# Altium footprint library SamacSys.PcbLib: 27 footprints (part 2 of 2)
Each footprint in its own frame and in the unit in brackets; x right, y up, seen from the top. Pads: shape width x height; smd on the part's side, far side on the other; paste and mask are expansions set on the pad; w line width, h text height; cw(c..) or ccw(c..) is an arc to the next point about the centre after c.
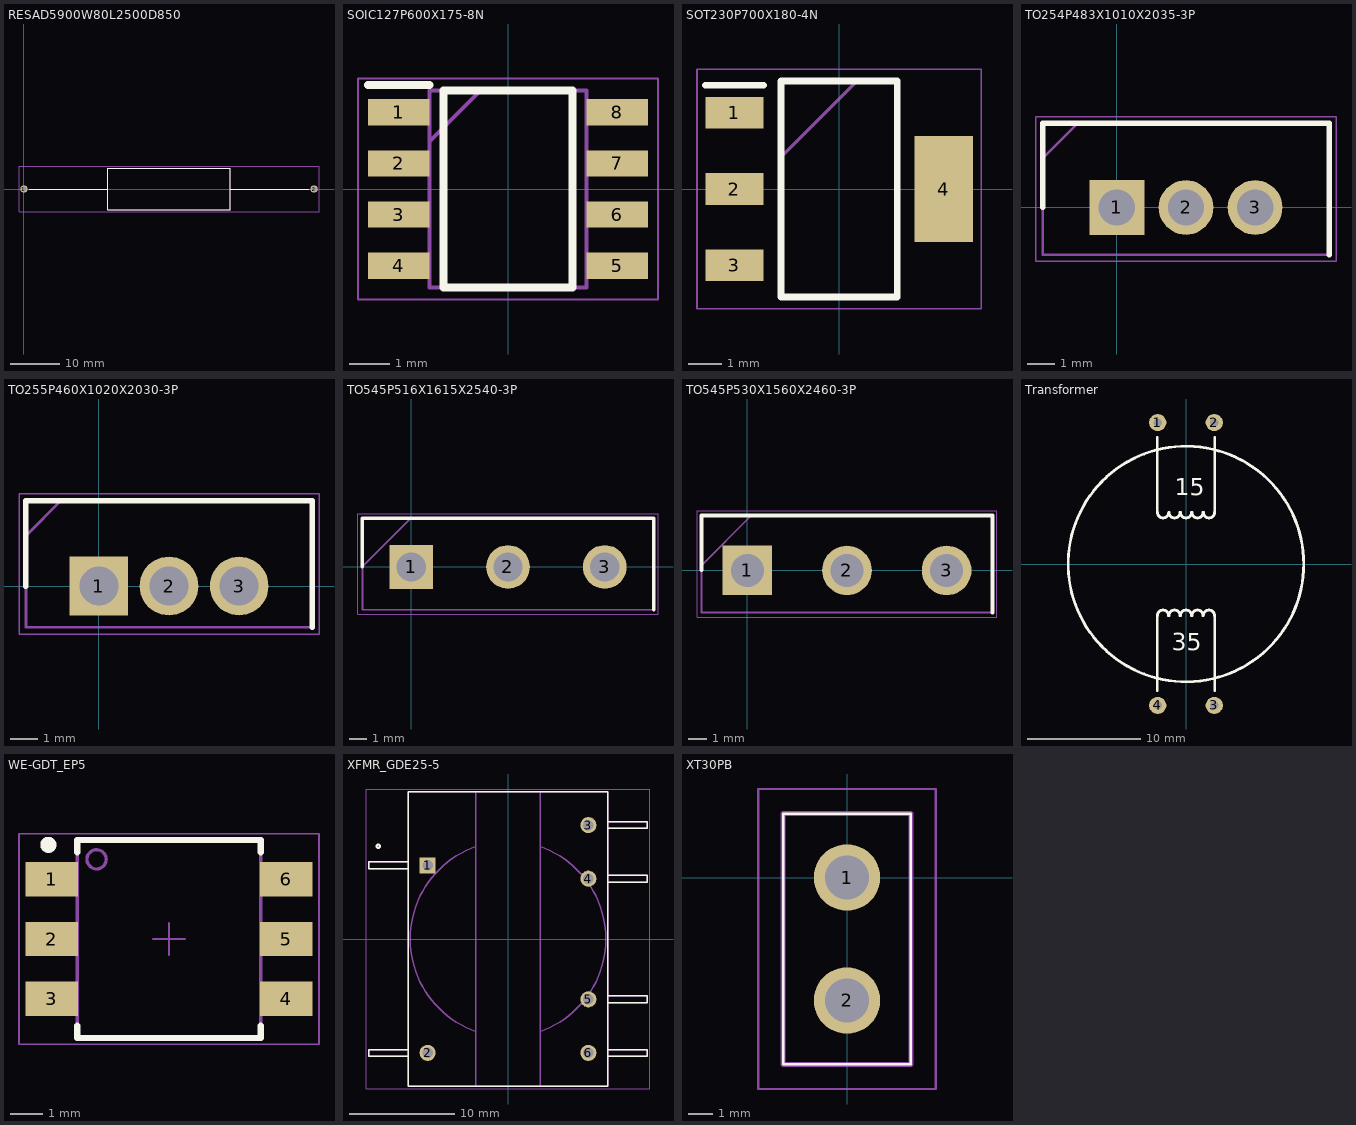
[diagram p1: the footprints below, top view; thin cyan lines are the x and y axes]

## RESAD5900W80L2500D850 [mm]
pads (2):
  round 1.5 hole 1: 1(0,0) 2(59,0)
Top Overlay:
  lines w0.2: 1.1,0 17,0 ; 42,0 57.9,0 ; 17,-4.25 17,4.25 42,4.25 42,-4.25 17,-4.25
Mechanical 13:
  lines w0.1: 0,0 17,0 ; 42,0 59,0 ; 17,-4.25 17,4.25 42,4.25 42,-4.25 17,-4.25
Mechanical 15:
  lines w0.05: -1,-4.6 -1,4.6 60,4.6 60,-4.6 -1,-4.6
3D body "EP5WS47RJ.stp": height 9.5, standoff -9.5, extent -0.4,-4.75 59.4,4.75

## SOIC127P600X175-8N [mm]
pads (8):
  rect 1.525x0.65 smd: 1(-2.712,1.905) 2(-2.712,0.635) 3(-2.712,-0.635) 4(-2.712,-1.905) 5(2.712,-1.905) 6(2.712,-0.635) 7(2.712,0.635) 8(2.712,1.905)
Top Overlay:
  lines w0.2: -3.475,2.58 -1.95,2.58 ; -1.6,-2.45 -1.6,2.45 1.6,2.45 1.6,-2.45 -1.6,-2.45
Mechanical 13:
  lines w0.1: -1.95,1.18 -0.68,2.45 ; -1.95,-2.45 -1.95,2.45 1.95,2.45 1.95,-2.45 -1.95,-2.45
Mechanical 15:
  lines w0.05: -3.725,-2.75 -3.725,2.75 3.725,2.75 3.725,-2.75 -3.725,-2.75
3D body "NE555DR.stp": height 1.75, standoff 0, extent -3,-2.45 3,2.45

## SOT230P700X180-4N [mm]
pads (4):
  rect 1.75x0.95 smd: 1(-3.15,2.3) 2(-3.15,0) 3(-3.15,-2.3)
  rect 1.75x3.2 smd: 4(3.15,0)
Top Overlay:
  lines w0.2: -4.025,3.125 -2.275,3.125 ; -1.75,-3.25 -1.75,3.25 1.75,3.25 1.75,-3.25 -1.75,-3.25
Mechanical 13:
  lines w0.1: -1.75,0.95 0.55,3.25 ; -1.75,-3.25 -1.75,3.25 1.75,3.25 1.75,-3.25 -1.75,-3.25
Mechanical 15:
  lines w0.05: -4.275,-3.6 -4.275,3.6 4.275,3.6 4.275,-3.6 -4.275,-3.6
3D body "LM7805MPX_NOPB.stp": height 1.68, standoff 0, extent -3.5,-3.25 3.5,3.25

## TO254P483X1010X2035-3P [mm]
pads (3):
  rect 2.01x2.01 hole 1.34: 1(0,0)
  round 2.01 hole 1.34: 2(2.54,0) 3(5.08,0)
Top Overlay:
  lines w0.2: -2.725,0 -2.725,3.095 7.805,3.095 7.805,-1.735
Mechanical 13:
  lines w0.1: -2.725,1.825 -1.455,3.095 ; -2.725,-1.735 -2.725,3.095 7.805,3.095 7.805,-1.735 -2.725,-1.735
Mechanical 15:
  lines w0.05: -2.975,-1.985 -2.975,3.345 8.055,3.345 8.055,-1.985 -2.975,-1.985
3D body "MBR40250TG.stp": height 18.56, standoff -17.79, extent -2.508,-1.735 7.588,3.095

## TO255P460X1020X2030-3P [mm]
pads (3):
  rect 2.13x2.13 hole 1.42: 1(0,0)
  round 2.13 hole 1.42: 2(2.55,0) 3(5.1,0)
Top Overlay:
  lines w0.2: -2.65,0 -2.65,3.1 7.75,3.1 7.75,-1.5
Mechanical 13:
  lines w0.1: -2.65,1.825 -1.375,3.1 ; -2.65,-1.5 -2.65,3.1 7.75,3.1 7.75,-1.5 -2.65,-1.5
Mechanical 15:
  lines w0.05: -2.9,-1.75 -2.9,3.35 8,3.35 8,-1.75 -2.9,-1.75
3D body "L7815CP.stp": height 19.4, standoff -18.3, extent -2.55,-1.5 7.65,3.1

## TO545P516X1615X2540-3P [mm]
pads (3):
  rect 2.46x2.46 hole 1.64: 1(0,0)
  round 2.46 hole 1.64: 2(5.45,0) 3(10.9,0)
Top Overlay:
  lines w0.2: -2.75,0 -2.75,2.745 13.65,2.745 13.65,-2.415
Mechanical 13:
  lines w0.1: -2.75,0.02 -0.025,2.745 ; -2.75,-2.415 -2.75,2.745 13.65,2.745 13.65,-2.415 -2.75,-2.415
Mechanical 15:
  lines w0.05: -3,-2.665 -3,2.995 13.9,2.995 13.9,-2.665 -3,-2.665
3D body "MBR40H60PT-E3_45.stp": height 24.85, standoff -42.1, extent -2.625,-2.415 13.525,2.745

## TO545P530X1560X2460-3P [mm]
pads (3):
  rect 2.715x2.715 hole 1.81: 1(0,0)
  round 2.715 hole 1.81: 2(5.45,0) 3(10.9,0)
Top Overlay:
  lines w0.2: -2.5,0 -2.5,3 13.4,3 13.4,-2.3
Mechanical 13:
  lines w0.1: -2.5,0.275 0.225,3 ; -2.5,-2.3 -2.5,3 13.4,3 13.4,-2.3 -2.5,-2.3
Mechanical 15:
  lines w0.05: -2.75,-2.55 -2.75,3.25 13.65,3.25 13.65,-2.55 -2.75,-2.55
3D body "IRFP250N.stp": height 24, standoff -40, extent -2.35,-2.3 13.25,3

## Transformer [mil]
pads (4):
  round 60 hole 30: 1(-98.43,492.13) 2(98.43,492.13) 3(98.43,-492.13) 4(-98.43,-492.13)
Top Overlay:
  circle w10: c0,0 r410
  lines w10: -100,-440 -100,-180 ; -100,180 -100,440 ; -99.69,-180 cw(c-80,-180) -60.31,-180 ; -99.37,180 ccw(c-79.69,180) -60,180 ; -59.69,-180 cw(c-40,-180) -20.32,-180 ; -59.69,180 ccw(c-40,180) -20.32,180 ; -19.68,-180 cw(c0,-180) 19.68,-180 ; -19.68,180 ccw(c0,180) 19.68,180 ; 20.32,-180 cw(c40,-180) 59.69,-180 ; 20.32,180 ccw(c40,180) 59.69,180 ; 60,-180 cw(c79.69,-180) 99.37,-180 ; 60.31,180 ccw(c80,180) 99.69,180 ; 100,-440 100,-180 ; 100,180 100,440
  text "15" at -40,240 h60
  text "35" at -50,-300 h60
3D body "74270118.stp": height 255.91, standoff 19.69, extent -416.85,-417.32 416.85,417.32

## WE-GDT_EP5 [mm] "Gate-Drive-Transformer, size EP5"
height 6
pads (6):
  rect 1.63x1.07 smd: 1(-1273.645,-1268.15) 2(-1273.645,-1270) 3(-1273.645,-1271.85) 4(-1266.355,-1271.85) 5(-1266.355,-1270) 6(-1266.355,-1268.15)
Top Overlay:
  circle w0.25: c-1273.75,-1267.075 r0.125
  lines w0.2: -1272.85,-1272.7 -1272.85,-1273.075 -1267.15,-1273.075 -1267.15,-1272.7 ; -1272.85,-1267.3 -1272.85,-1266.925 -1267.15,-1266.925 -1267.15,-1267.3
Top Courtyard:
  lines w0.05: -1270.5,-1270 -1269.5,-1270 ; -1270,-1270.5 -1270,-1269.5 ; -1274.66,-1273.275 -1265.34,-1273.275 -1265.34,-1266.725 -1274.66,-1266.725 -1274.66,-1273.275
Top Component Outline:
  circle w0.1: c-1272.25,-1267.525 r0.3
  lines w0.1: -1272.85,-1272.15 -1273.85,-1272.15 -1273.85,-1271.55 -1272.85,-1271.55 ; -1272.85,-1270.3 -1273.85,-1270.3 -1273.85,-1269.7 -1272.85,-1269.7 ; -1272.85,-1268.45 -1273.85,-1268.45 -1273.85,-1267.85 -1272.85,-1267.85 ; -1267.15,-1272.15 -1266.15,-1272.15 -1266.15,-1271.55 -1267.15,-1271.55 ; -1267.15,-1270.3 -1266.15,-1270.3 -1266.15,-1269.7 -1267.15,-1269.7 ; -1267.15,-1268.45 -1266.15,-1268.45 -1266.15,-1267.85 -1267.15,-1267.85 ; -1272.85,-1273.075 -1272.85,-1266.925 -1267.15,-1266.925 -1267.15,-1273.075 -1272.85,-1273.075
3D body "STEP-WE-GDT-EP5-rev1.stp": height 5.1, standoff 0, extent -1273.85,-1273.075 -1266.15,-1266.925

## XFMR_GDE25-5 [mil]
pads (6):
  rect 60x60 hole 40: 1(-300,275)
  round 60 hole 40: 2(-300,-425) 3(300,425) 4(300,225) 5(300,-225) 6(300,-425)
Top Overlay:
  circle w7.87: c-484.15,346.44 r6.22
  lines w5: -373,-437.5 -520,-437.5 -520,-412.5 -373,-412.5 ; 373,-437.5 520,-437.5 520,-412.5 373,-412.5 ; 373,-237.5 520,-237.5 520,-212.5 373,-212.5 ; 373,212.5 520,212.5 520,237.5 373,237.5 ; 373,412.5 520,412.5 520,437.5 373,437.5 ; -373,262.5 -520,262.5 -520,287.5 -373,287.5 ; -373,262.5 -373,-550 373,-550 373,550 -373,550 -373,287.5 ; -373,262.5 -373,287.5
Mechanical 13:
  lines w5: -373,-437.5 -520,-437.5 -520,-412.5 -373,-412.5 ; -365,-0.19 ccw(c0.14,-0.19) -118.74,-345.44 ; -365,0.19 cw(c0.14,0.19) -118.74,345.44 ; 118.74,-345.44 ccw(c-0.14,-0.19) 365,-0.19 ; 118.74,345.44 cw(c-0.14,0.19) 365,0.19 ; 373,-437.5 520,-437.5 520,-412.5 373,-412.5 ; 373,-237.5 520,-237.5 520,-212.5 373,-212.5 ; 373,212.5 520,212.5 520,237.5 373,237.5 ; 373,412.5 520,412.5 520,437.5 373,437.5 ; -373,262.5 -520,262.5 -520,287.5 -373,287.5 ; -373,262.5 -373,-550 -120,-550 ; -373,262.5 -373,287.5 ; -373,287.5 -373,550 -120,550 ; -120,-550 120,-550 ; -120,-550 -120,345 -120,550 ; -120,550 120,550 ; 120,-550 120,-345 120,550 ; 120,-550 373,-550 373,550 120,550
Mechanical 15:
  lines w1.97: -529.84,-559.84 -529.84,559.84 529.84,559.84 529.84,-559.84 -529.84,-559.84
3D body "Triad Magnetics-GDE25-5.STEP": height 1340, standoff -140, extent -520,-550 520,550

## XT30PB [mm]
pads (2):
  round 2.7 hole 1.8: 1(0,0) 2(0,-5)
Top Overlay:
  lines w0.1: -2.6,-7.6 2.6,-7.6 2.6,2.6 -2.6,2.6 -2.6,-7.6
Mechanical 13:
  lines w0.2: -2.6,-7.6 2.6,-7.6 2.6,2.6 -2.6,2.6 -2.6,-7.6
Mechanical 15:
  lines w0.1: -3.6,-8.6 3.6,-8.6 3.6,3.6 -3.6,3.6 -3.6,-8.6
3D body "XT30PB.stp": height 10.66, standoff -2.04, extent -2.6,-7.6 2.6,2.6